# Altium schematic symbol library ICs-Motor Controller.SchLib: 7 symbols
Pins are listed as number, name and electrical type; pins without a type are passive.

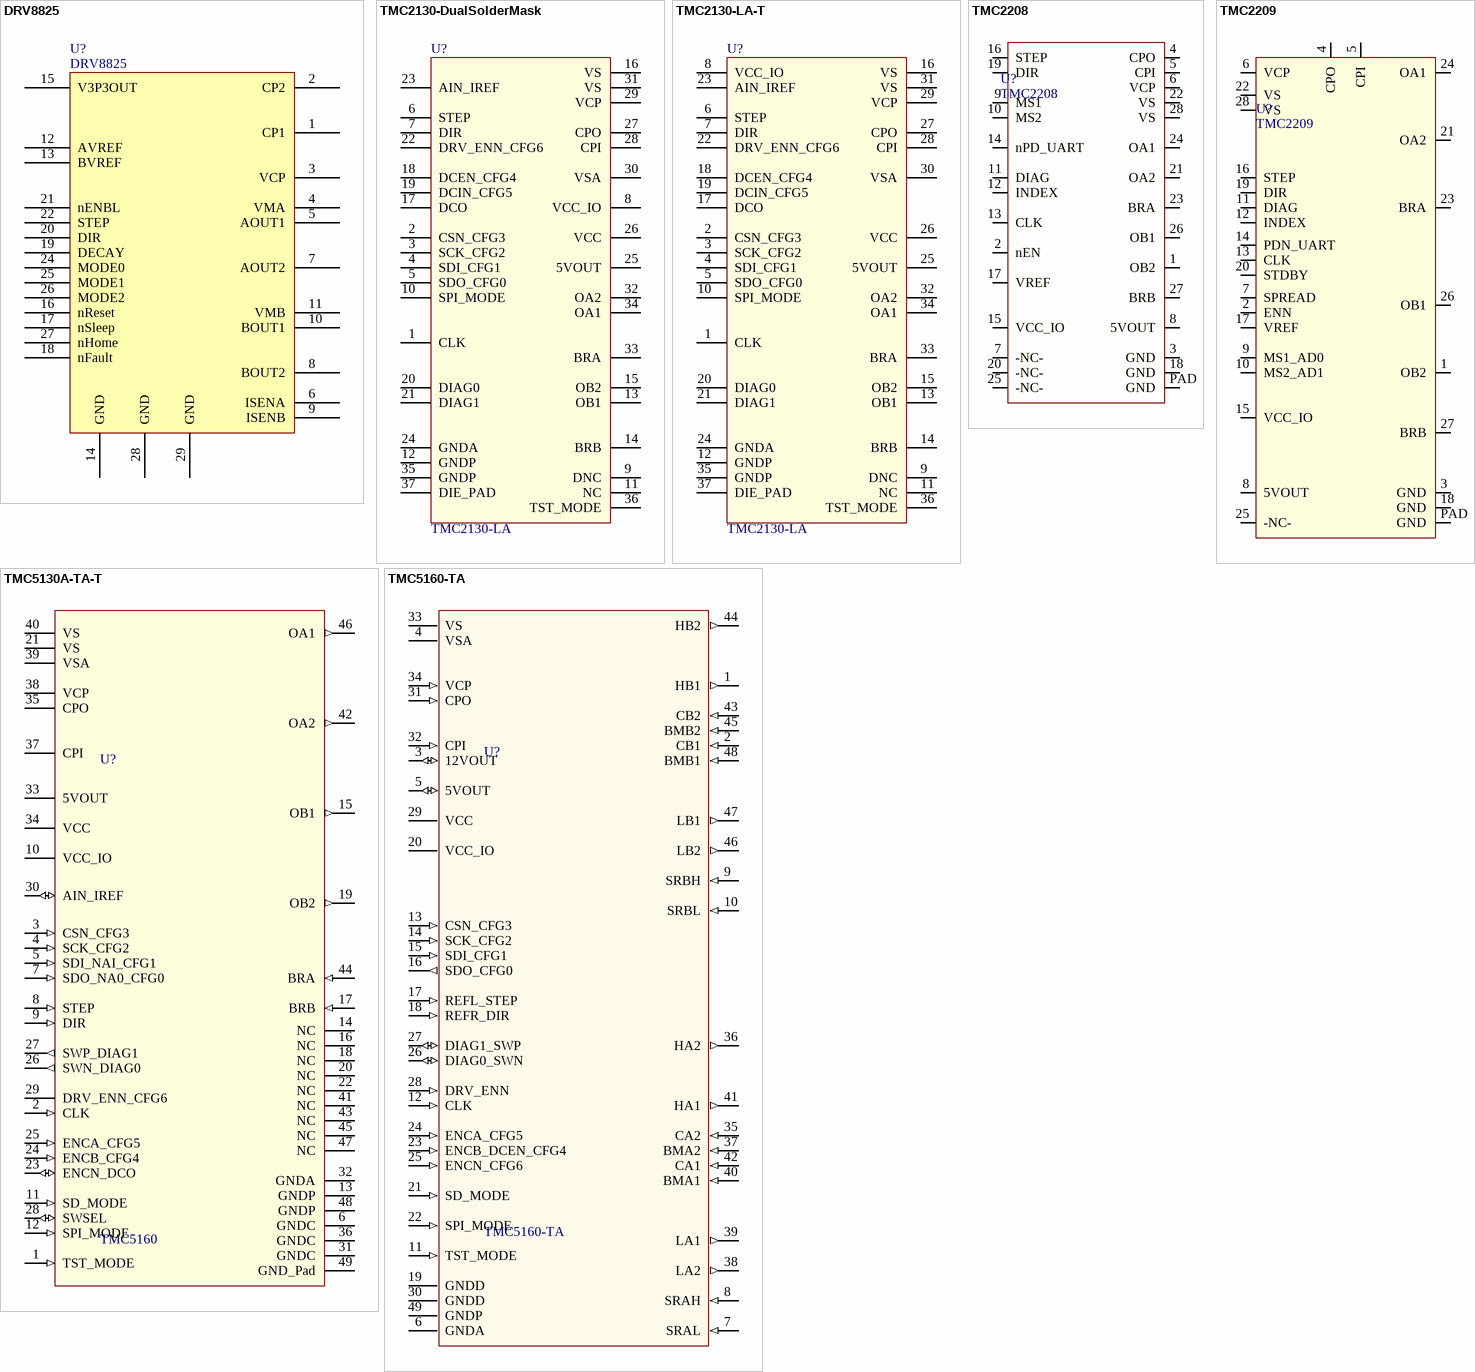
[diagram p0: symbols DRV8825 to TMC5160-TA]

## DRV8825
designator U?
DRV8825 Ti Stepper Driver; MANUFACTURER #: DRV8825PWPR; MANUFACTURER: Texas Instruments; PART DESCRIPTION: Bipolar Motor Driver Power MOSFET Step/Direction 28-HTSSOP; TOLERANCE: -NA-; EE_SPEC: 8.2-45VDC; VALUE: -NA-; Assembly Method: SMT; DISTRIBUTOR #: 296-29503-2-ND; DISTRIBUTOR: Digikey; PART: DRV8825
footprint DRV8825PWPR (PowerPAD (HTSSOP) - PWP)
pins: 1 CP1, 2 CP2, 3 VCP, 4 VMA, 5 AOUT1, 6 ISENA, 7 AOUT2, 8 BOUT2, 9 ISENB, 10 BOUT1, 11 VMB, 12 AVREF, 13 BVREF, 14 GND, 15 V3P3OUT, 16 nReset, 17 nSleep, 18 nFault, 19 DECAY, 20 DIR, 21 nENBL, 22 STEP, 23 NC hidden, 24 MODE0, 25 MODE1, 26 MODE2, 27 nHome, 28 GND, 29 GND

## TMC2130-DualSolderMask
designator U?, comment TMC2130-LA
IC STEPPER MOTOR DVR SPI 36QFN; MANUFACTURER #: TMC2130-LA-T; MANUFACTURER: Trinamic; Part Description: Bipolar Motor Driver Power MOSFET SPI, Step/Direction 36-QFN (5x6); Assembly Method: SMT; EE_SPEC: 46V 1.2A 1/256 Step; Tolerance: NA; DISTRIBUTOR #: 1460-1130-2-ND; DISTRIBUTOR: Digi-Key; PART: TMC2130; VALUE: TMC2130
footprint QFN36-DualSolderMask (QFN, 36-Leads, Body 5.00x6.00mm, Pitch 0.50mm, Thermal Pad 3.60x4.10mm, IPC Medium Density)
pins: 1 CLK, 2 CSN_CFG3, 3 SCK_CFG2, 4 SDI_CFG1, 5 SDO_CFG0, 6 STEP, 7 DIR, 8 VCC_IO, 9 DNC, 10 SPI_MODE, 11 NC, 12 GNDP, 13 OB1, 14 BRB, 15 OB2, 16 VS, 17 DCO, 18 DCEN_CFG4, 19 DCIN_CFG5, 20 DIAG0, 21 DIAG1, 22 DRV_ENN_CFG6, 23 AIN_IREF, 24 GNDA, 25 5VOUT, 26 VCC, 27 CPO, 28 CPI, 29 VCP, 30 VSA, 31 VS, 32 OA2, 33 BRA, 34 OA1, 35 GNDP, 36 TST_MODE, 37 DIE_PAD

## TMC2130-LA-T
designator U?, comment TMC2130-LA
IC STEPPER MOTOR DVR SPI 36QFN; MANUFACTURER #: TMC2130-LA-T; MANUFACTURER: Trinamic; Part Description: Bipolar Motor Driver Power MOSFET SPI, Step/Direction 36-QFN (5x6); Assembly Method: SMT; EE_SPEC: 46V 1.2A 1/256 Step; Tolerance: NA; DISTRIBUTOR #: 1460-1130-2-ND; DISTRIBUTOR: Digi-Key; PART: TMC2130; VALUE: TMC2130
footprint QFN36-50P500X600X900_HS-37N (QFN, 36-Leads, Body 5.00x6.00mm, Pitch 0.50mm, Thermal Pad 3.60x4.10mm, IPC Medium Density)
pins: 1 CLK, 2 CSN_CFG3, 3 SCK_CFG2, 4 SDI_CFG1, 5 SDO_CFG0, 6 STEP, 7 DIR, 8 VCC_IO, 9 DNC, 10 SPI_MODE, 11 NC, 12 GNDP, 13 OB1, 14 BRB, 15 OB2, 16 VS, 17 DCO, 18 DCEN_CFG4, 19 DCIN_CFG5, 20 DIAG0, 21 DIAG1, 22 DRV_ENN_CFG6, 23 AIN_IREF, 24 GNDA, 25 5VOUT, 26 VCC, 27 CPO, 28 CPI, 29 VCP, 30 VSA, 31 VS, 32 OA2, 33 BRA, 34 OA1, 35 GNDP, 36 TST_MODE, 37 DIE_PAD

## TMC2208
designator U?
IC STEPPER MOTOR DRIVER 28QFN; MANUFACTURER #: TMC2208-LA-T; MANUFACTURER: Trinamics; PART DESCRIPTION: Bipolar Motor Driver Power MOSFET Step/Direction, UART 28-QFN; TOLERANCE: -NA-; EE_SPEC: 5.5-36VDC; VALUE: -NA-; Assembly Method: SMT; DISTRIBUTOR #: 1460-1184-2-ND; DISTRIBUTOR: Digikey; PART: TMC2208
footprint QFN28_5X5 (QFN, 28-Leads, Body 5.00x5.00mm, Pitch 0.50mm, Thermal Pad 3.10x3.10mm, IPC Low Density)
pins: 1 OB2, 2 nEN, 3 GND, 4 CPO, 5 CPI, 6 VCP, 7 -NC-, 8 5VOUT, 9 MS1, 10 MS2, 11 DIAG, 12 INDEX, 13 CLK, 14 nPD_UART, 15 VCC_IO, 16 STEP, 17 VREF, 18 GND, 19 DIR, 20 -NC-, 21 OA2, 22 VS, 23 BRA, 24 OA1, 25 -NC-, 26 OB1, 27 BRB, 28 VS, PAD GND

## TMC2209
designator U?
IC STEPPER MOTOR DRIVER 28QFN; MANUFACTURER #: TMC2209-LA-T; MANUFACTURER: Trinamics; Assembly Method: SMT; PART: TMC2209
footprint QFN28-5x5-pad3.7 (QFN, 28-Leads, Body 5.00x5.00mm, Pitch 0.50mm, Thermal Pad 3.70x3.70mm, IPC Medium Density)
pins: 1 OB2, 2 ENN, 3 GND, 4 CPO, 5 CPI, 6 VCP, 7 SPREAD, 8 5VOUT, 9 MS1_AD0, 10 MS2_AD1, 11 DIAG, 12 INDEX, 13 CLK, 14 PDN_UART, 15 VCC_IO, 16 STEP, 17 VREF, 18 GND, 19 DIR, 20 STDBY, 21 OA2, 22 VS, 23 BRA, 24 OA1, 25 -NC-, 26 OB1, 27 BRB, 28 VS, PAD GND

## TMC5130A-TA-T
designator U?, comment TMC5160
IC STEPPER MOTOR DVR TQFP48-EP; MANUFACTURER #: TMC5130A-TA-T; MANUFACTURER: Trinamic; Part Description: IC MTR DRV BIPOLAR 5.5-46V 48QFP; Assembly Method: SMT; EE_SPEC: 46V 1/256 Step 1.4A; VALUE: TMC5160
footprint TQFP48-EP (TSQFP, 48-Leads, Body 7.00x7.00mm, Pitch 0.50mm, Thermal Pad 5.10x5.10mm, IPC High Density)
pins: 1 TST_MODE (in), 2 CLK (in), 3 CSN_CFG3 (in), 4 SCK_CFG2 (in), 5 SDI_NAI_CFG1 (in), 6 GNDC (power), 7 SDO_NA0_CFG0 (in), 8 STEP (in), 9 DIR (in), 10 VCC_IO (power), 11 SD_MODE (in), 12 SPI_MODE (in), 13 GNDP (power), 14 NC, 15 OB1 (out), 16 NC, 17 BRB (in), 18 NC, 19 OB2 (out), 20 NC, 21 VS (power), 22 NC, 23 ENCN_DCO (io), 24 ENCB_CFG4 (in), 25 ENCA_CFG5 (in), 26 SWN_DIAG0 (out), 27 SWP_DIAG1 (out), 28 SWSEL (io), 29 DRV_ENN_CFG6 (power), 30 AIN_IREF (io), 31 GNDC (power), 32 GNDA (power), 33 5VOUT (power), 34 VCC (power), 35 CPO (power), 36 GNDC (power), 37 CPI (power), 38 VCP (power), 39 VSA (power), 40 VS (power), 41 NC, 42 OA2 (out), 43 NC, 44 BRA (in), 45 NC, 46 OA1 (out), 47 NC, 48 GNDP (power), 49 GND_Pad (power)

## TMC5160-TA
designator U?
IC STEPPER MOTOR DVR TQFP48-EP; MANUFACTURER: Trinamic; Assembly Method: SMT; EE_SPEC: 60V 1/256 Step; MANUFACTURER #: TMC5160-TA; Part Description: IC STEPPER MOTOR DVR TQFP48-EP; VALUE: TMC5160-TA
footprint TQFP48-EP (TSQFP, 48-Leads, Body 7.00x7.00mm, Pitch 0.50mm, Thermal Pad 5.10x5.10mm, IPC High Density)
pins: 1 HB1 (out), 2 CB1 (in), 3 12VOUT (io), 4 VSA (power), 5 5VOUT (io), 6 GNDA (power), 7 SRAL (in), 8 SRAH (in), 9 SRBH (in), 10 SRBL (in), 11 TST_MODE (in), 12 CLK (in), 13 CSN_CFG3 (in), 14 SCK_CFG2 (in), 15 SDI_CFG1 (in), 16 SDO_CFG0 (out), 17 REFL_STEP (in), 18 REFR_DIR (in), 19 GNDD (power), 20 VCC_IO (power), 21 SD_MODE (in), 22 SPI_MODE (in), 23 ENCB_DCEN_CFG4 (in), 24 ENCA_CFG5 (in), 25 ENCN_CFG6 (in), 26 DIAG0_SWN (io), 27 DIAG1_SWP (io), 28 DRV_ENN (in), 29 VCC (power), 30 GNDD (power), 31 CPO (in), 32 CPI (in), 33 VS (power), 34 VCP (in), 35 CA2 (in), 36 HA2 (out), 37 BMA2 (in), 38 LA2 (out), 39 LA1 (out), 40 BMA1 (in), 41 HA1 (out), 42 CA1 (in), 43 CB2 (in), 44 HB2 (out), 45 BMB2 (in), 46 LB2 (out), 47 LB1 (out), 48 BMB1 (in), 49 GNDP (power)